# EAGLE library part ATMEGA328 (library LedController)
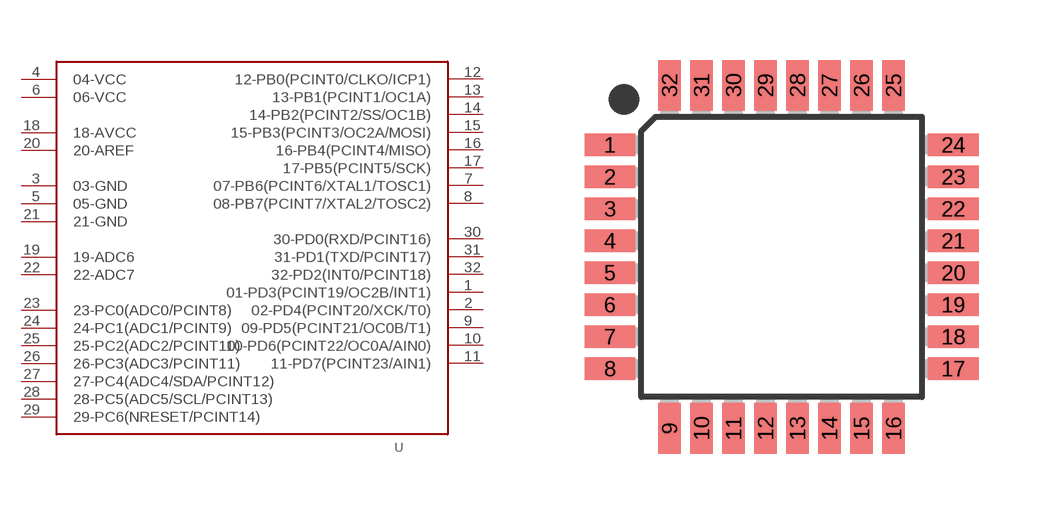
[diagram p0: symbol with the pads of TQFP32; footprint TQFP32]

Designator prefix -

## ATMEGA328  [TQFP32]
1  01-PD3(PCINT19/OC2B/INT1)
2  02-PD4(PCINT20/XCK/T0)
3  03-GND
4  04-VCC
5  05-GND
6  06-VCC
7  07-PB6(PCINT6/XTAL1/TOSC1)
8  08-PB7(PCINT7/XTAL2/TOSC2)
9  09-PD5(PCINT21/OC0B/T1)
10  10-PD6(PCINT22/OC0A/AIN0)
11  11-PD7(PCINT23/AIN1)
12  12-PB0(PCINT0/CLKO/ICP1)
13  13-PB1(PCINT1/OC1A)
14  14-PB2(PCINT2/SS/OC1B)
15  15-PB3(PCINT3/OC2A/MOSI)
16  16-PB4(PCINT4/MISO)
17  17-PB5(PCINT5/SCK)
18  18-AVCC
19  19-ADC6
20  20-AREF
21  21-GND
22  22-ADC7
23  23-PC0(ADC0/PCINT8)
24  24-PC1(ADC1/PCINT9)
25  25-PC2(ADC2/PCINT10)
26  26-PC3(ADC3/PCINT11)
27  27-PC4(ADC4/SDA/PCINT12)
28  28-PC5(ADC5/SCL/PCINT13)
29  29-PC6(NRESET/PCINT14)
30  30-PD0(RXD/PCINT16)
31  31-PD1(TXD/PCINT17)
32  32-PD2(INT0/PCINT18)

## Footprint TQFP32 (pad centres in mm)
Thin Plasic Quad Flat Package Grid 0.8 mm
smd 1.27 x 0.559: 1 -4.293,2.8; 2 -4.293,2; 3 -4.293,1.2; 4 -4.293,0.4; 5 -4.293,-0.4; 6 -4.293,-1.2; 7 -4.293,-2; 8 -4.293,-2.8; 17 4.293,-2.8; 18 4.293,-2; 19 4.293,-1.2; 20 4.293,-0.4; 21 4.293,0.4; 22 4.293,1.2; 23 4.293,2; 24 4.293,2.8
smd 0.559 x 1.27: 9 -2.8,-4.293; 10 -2,-4.293; 11 -1.2,-4.293; 12 -0.4,-4.293; 13 0.4,-4.293; 14 1.2,-4.293; 15 2,-4.293; 16 2.8,-4.293; 25 2.8,4.293; 26 2,4.293; 27 1.2,4.293; 28 0.4,4.293; 29 -0.4,4.293; 30 -1.2,4.293; 31 -2,4.293; 32 -2.8,4.293